# Altium footprint library GCT_MEM2067-02-180-00-A_REVB.PcbLib: 1 footprints
Each footprint in its own frame and in the unit in brackets; x right, y up, seen from the top. Pads: shape width x height; smd on the part's side, far side on the other; paste and mask are expansions set on the pad; w line width, h text height; cw(c..) or ccw(c..) is an arc to the next point about the centre after c.
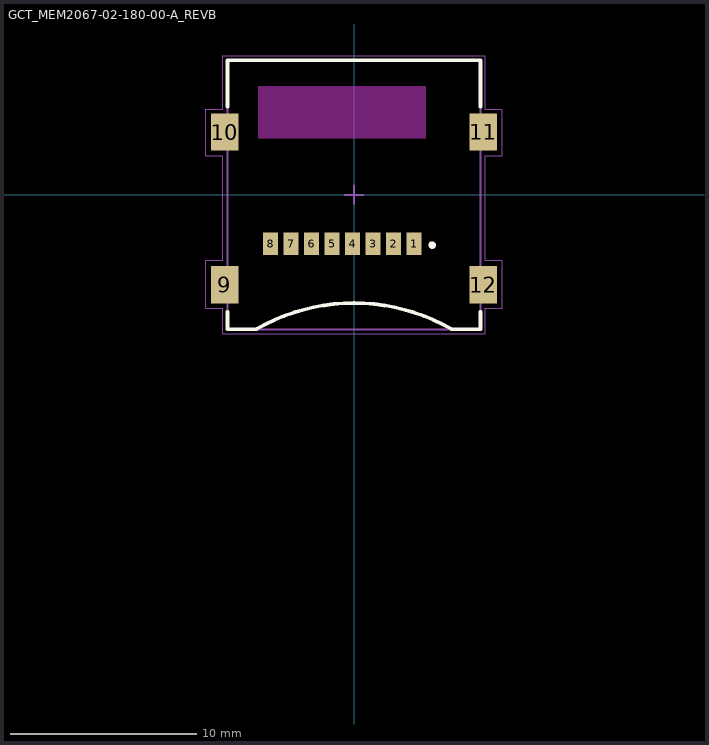
[diagram p0: the footprint, top view; thin cyan lines are the x and y axes]

## GCT_MEM2067-02-180-00-A_REVB [mm]
pads (12):
  rect 0.8x1.2 smd: 1(3.225,-2.625) 2(2.125,-2.625) 3(1.025,-2.625) 4(-0.075,-2.625) 5(-1.175,-2.625) 6(-2.275,-2.625) 7(-3.375,-2.625) 8(-4.475,-2.625)
  rect 1.5x2 smd: 9(-6.945,-4.825) 10(-6.945,3.375) 11(6.945,3.375) 12(6.945,-4.825)
Top Overlay:
  circle w0.2: c4.2,-2.7 r0.1
  lines w0.2: -6.8,-6.275 -6.8,-7.225 -5.25,-7.225 ; -6.8,4.725 -6.8,7.225 6.8,7.225 6.8,4.725 ; -5.226,-7.211 cw(c0,-16.264) 5.226,-7.211 ; 5.25,-7.225 6.8,-7.225 6.8,-6.275
Keep-Out Layer:
  region: 3.85,3.028 -5.155,3.028 -5.155,5.825 3.85,5.825
Mechanical 13:
  lines w0.1: -6.8,2.77 -7.3,2.77 -7.3,3.97 -6.8,3.97 ; -0.5,0 0.5,0 ; 0,-0.5 0,0.5 ; -6.8,-5.4 -7.3,-5.4 -7.3,-4.2 -6.8,-4.2 ; -6.8,-5.4 -6.8,-4.2 ; -6.8,-5.4 -6.8,-7.225 6.8,-7.225 6.8,-5.4 ; -6.8,-4.2 -6.8,7.225 6.8,7.225 6.8,3.97 ; 6.8,-5.4 6.8,-4.2 ; 6.8,-5.4 7.3,-5.4 7.3,-4.2 6.8,-4.2 ; 6.8,-4.2 6.8,2.77 ; 6.8,2.77 6.8,3.97 ; 6.8,2.77 7.3,2.77 7.3,3.97 6.8,3.97
Mechanical 15:
  lines w0.05: -7.95,-6.096 -7.061,-6.096 -7.061,-7.468 7.061,-7.468 7.061,-6.096 7.95,-6.096 7.95,-3.505 7.061,-3.505 7.061,2.108 7.95,2.108 7.95,4.597 7.061,4.597 7.061,7.468 -7.061,7.468 -7.061,4.597 -7.95,4.597 -7.95,2.108 -7.061,2.108 -7.061,-3.505 -7.95,-3.505 -7.95,-6.096
3D body "MEM2067-02-180-00-A_REVB.step": height 1.8, standoff 0, extent -7.3,-7.225 7.3,7.225